# Altium schematic symbol library Sensors.SchLib: 1 symbol
Pins are listed as number, name and electrical type; pins without a type are passive.

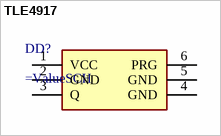
[diagram p0: symbol TLE4917]

## TLE4917
designator DD?
pins: 1 VCC, 2 GND, 3 Q, 4 GND, 5 GND, 6 PRG